# Altium schematic symbol library 6903 6818 xx 72.SchLib: 12 symbols
Pins are listed as number, name and electrical type; pins without a type are passive.

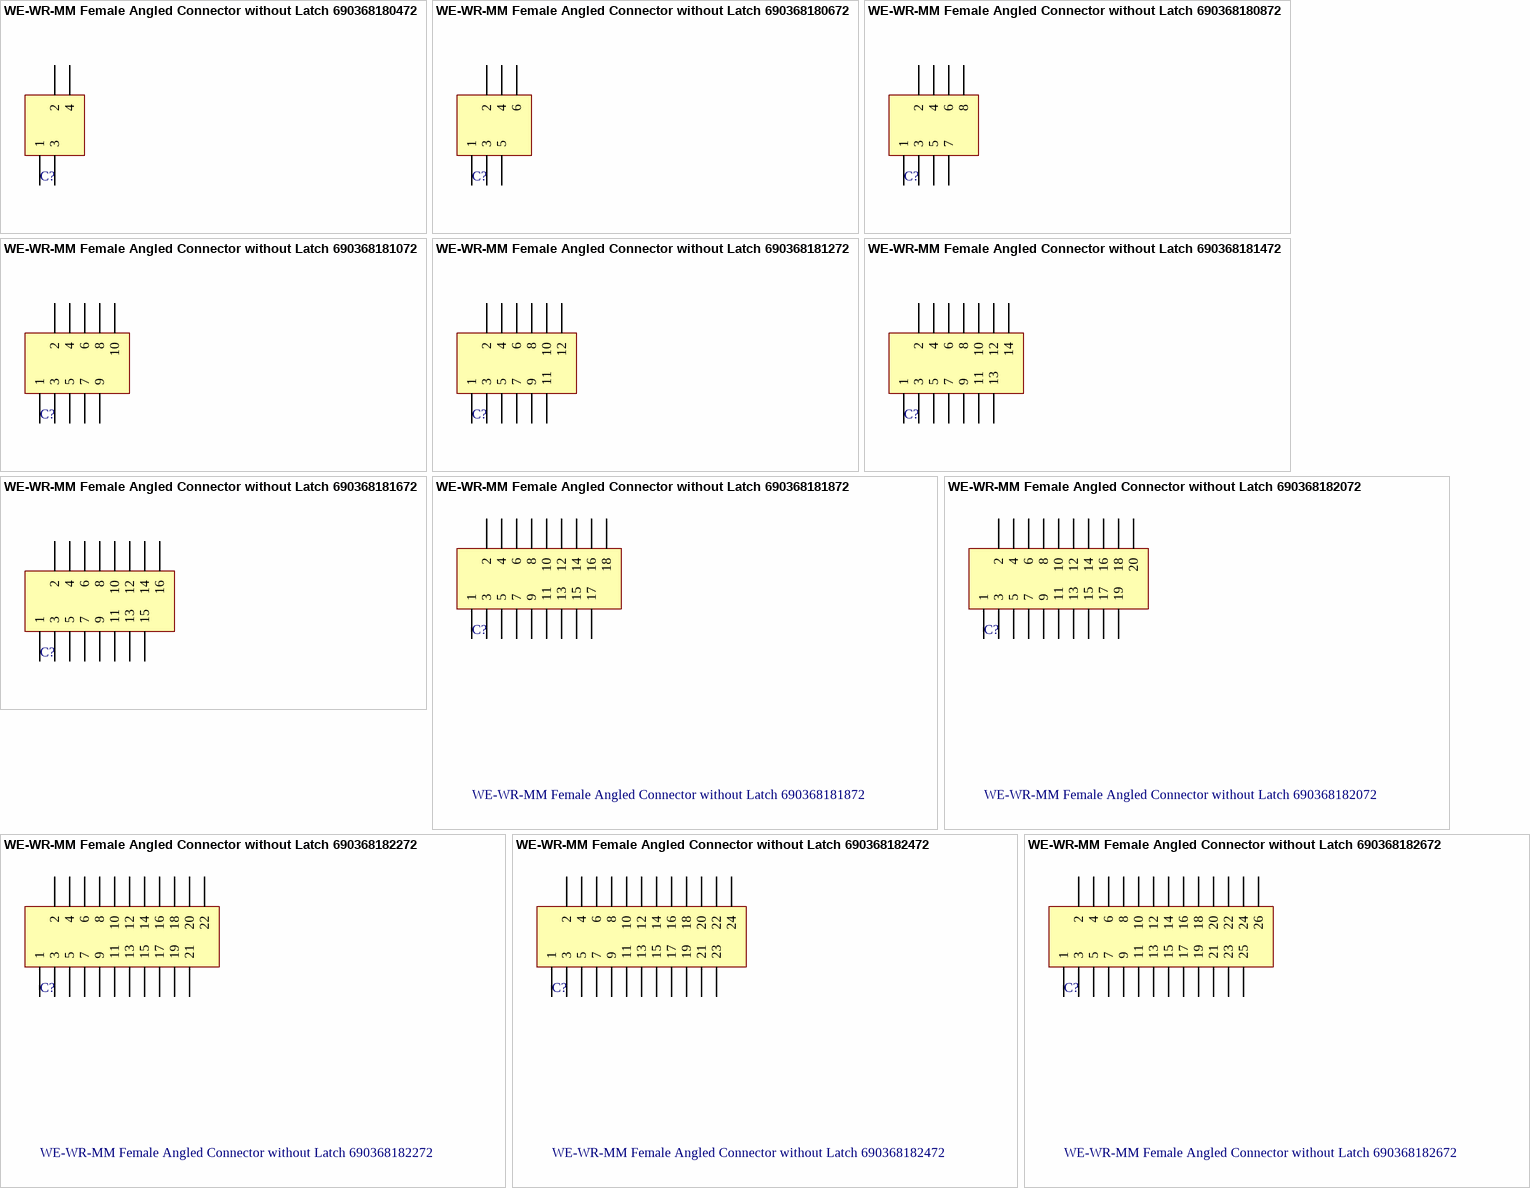
[diagram p0: symbols WE-WR-MM Female Angled Connector without Latch 690368180472 to WE-WR-MM Female Angled Connector without Latch 690368182672]

## WE-WR-MM Female Angled Connector without Latch 690368180472
designator C?
WR-MM Female Angled Connector without Latch; Manufacturer: Würth Elektronik eiSos GmbH; ComponentLink1 Description: Manufacturer; ComponentLink2 Description: Datasheet; NoPins: 4; Created Date: 18 April 2013; partNo: 690368180472; ComponentLink1URL: http://www.we-online.com; ComponentLink2URL: http://katalog.we-online.de/em/datasheet/69036818xx72.pdf; Created by: Karrer Zheng
footprint 690368180472 (without Polarization, 4 pins, right angled)
pins: 1, 2, 3, 4

## WE-WR-MM Female Angled Connector without Latch 690368180672
designator C?
WR-MM Female Angled Connector without Latch; Manufacturer: Würth Elektronik eiSos GmbH; ComponentLink1 Description: Manufacturer; ComponentLink2 Description: Datasheet; NoPins: 6; Created Date: 18 April 2013; partNo: 690368180672; ComponentLink1URL: http://www.we-online.com; ComponentLink2URL: http://katalog.we-online.de/em/datasheet/69036818xx72.pdf; Created by: Karrer Zheng
footprint 690368180672 (without Polarization, 6 pins, right angled)
pins: 1, 2, 3, 4, 5, 6

## WE-WR-MM Female Angled Connector without Latch 690368180872
designator C?
WR-MM Female Angled Connector without Latch; Manufacturer: Würth Elektronik eiSos GmbH; ComponentLink1 Description: Manufacturer; ComponentLink2 Description: Datasheet; NoPins: 8; Created Date: 18 April 2013; partNo: 690368180872; ComponentLink1URL: http://www.we-online.com; ComponentLink2URL: http://katalog.we-online.de/em/datasheet/69036818xx72.pdf; Created by: Karrer Zheng
footprint 690368180872 (without Polarization, 8 pins, right angled)
pins: 1, 2, 3, 4, 5, 6, 7, 8

## WE-WR-MM Female Angled Connector without Latch 690368181072
designator C?
WR-MM Female Angled Connector without Latch; Manufacturer: Würth Elektronik eiSos GmbH; ComponentLink1 Description: Manufacturer; ComponentLink2 Description: Datasheet; NoPins: 10; Created Date: 18 April 2013; partNo: 690368181072; ComponentLink1URL: http://www.we-online.com; ComponentLink2URL: http://katalog.we-online.de/em/datasheet/69036818xx72.pdf; Created by: Karrer Zheng
footprint 690368181072 (without Polarization, 10 pins, right angled)
pins: 1, 2, 3, 4, 5, 6, 7, 8, 9, 10

## WE-WR-MM Female Angled Connector without Latch 690368181272
designator C?
WR-MM Female Angled Connector without Latch; Manufacturer: Würth Elektronik eiSos GmbH; ComponentLink1 Description: Manufacturer; ComponentLink2 Description: Datasheet; NoPins: 12; Created Date: 18 April 2013; partNo: 690368181272; ComponentLink1URL: http://www.we-online.com; ComponentLink2URL: http://katalog.we-online.de/em/datasheet/69036818xx72.pdf; Created by: Karrer Zheng
footprint 690368181272 (without Polarization, 12 pins, right angled)
pins: 1, 2, 3, 4, 5, 6, 7, 8, 9, 10, 11, 12

## WE-WR-MM Female Angled Connector without Latch 690368181472
designator C?
WR-MM Female Angled Connector without Latch; Manufacturer: Würth Elektronik eiSos GmbH; ComponentLink1 Description: Manufacturer; ComponentLink2 Description: Datasheet; NoPins: 14; Created Date: 18 April 2013; partNo: 690368181472; ComponentLink1URL: http://www.we-online.com; ComponentLink2URL: http://katalog.we-online.de/em/datasheet/69036818xx72.pdf; Created by: Karrer Zheng
footprint 690368181472 (without Polarization,14 pins, right angled)
pins: 1, 2, 3, 4, 5, 6, 7, 8, 9, 10, 11, 12, 13, 14

## WE-WR-MM Female Angled Connector without Latch 690368181672
designator C?
WR-MM Female Angled Connector without Latch; Manufacturer: Würth Elektronik eiSos GmbH; ComponentLink1 Description: Manufacturer; ComponentLink2 Description: Datasheet; NoPins: 16; Created Date: 18 April 2013; partNo: 690368181672; ComponentLink1URL: http://www.we-online.com; ComponentLink2URL: http://katalog.we-online.de/em/datasheet/69036818xx72.pdf; Created by: Karrer Zheng
footprint 690368181672 (without Polarization, 16 pins, right angled)
pins: 1, 2, 3, 4, 5, 6, 7, 8, 9, 10, 11, 12, 13, 14, 15, 16

## WE-WR-MM Female Angled Connector without Latch 690368181872
designator C?
WR-MM Female Angled Connector without Latch; Manufacturer: Würth Elektronik eiSos GmbH; ComponentLink1 Description: Manufacturer; ComponentLink2 Description: Datasheet; NoPins: 18; Created Date: 18 April 2013; partNo: 690368181872; ComponentLink1URL: http://www.we-online.com; ComponentLink2URL: http://katalog.we-online.de/em/datasheet/69036818xx72.pdf; Created by: Karrer Zheng
footprint 690368181872 (without Polarization, 18 pins, right angled)
pins: 1, 2, 3, 4, 5, 6, 7, 8, 9, 10, 11, 12, 13, 14, 15, 16, 17, 18

## WE-WR-MM Female Angled Connector without Latch 690368182072
designator C?
WR-MM Female Angled Connector without Latch; Manufacturer: Würth Elektronik eiSos GmbH; ComponentLink1 Description: Manufacturer; ComponentLink2 Description: Datasheet; NoPins: 20; Created Date: 18 April 2013; partNo: 690368182072; ComponentLink1URL: http://www.we-online.com; ComponentLink2URL: http://katalog.we-online.de/em/datasheet/69036818xx72.pdf; Created by: Karrer Zheng
footprint 690368182072 (without Polarization, 20 pins, right angled)
pins: 1, 2, 3, 4, 5, 6, 7, 8, 9, 10, 11, 12, 13, 14, 15, 16, 17, 18, 19, 20

## WE-WR-MM Female Angled Connector without Latch 690368182272
designator C?
WR-MM Female Angled Connector without Latch; Manufacturer: Würth Elektronik eiSos GmbH; ComponentLink1 Description: Manufacturer; ComponentLink2 Description: Datasheet; NoPins: 22; Created Date: 18 April 2013; partNo: 690368182272; ComponentLink1URL: http://www.we-online.com; ComponentLink2URL: http://katalog.we-online.de/em/datasheet/69036818xx72.pdf; Created by: Karrer Zheng
footprint 690368182272 (without Polarization, 22 pins, right angled)
pins: 1, 2, 3, 4, 5, 6, 7, 8, 9, 10, 11, 12, 13, 14, 15, 16, 17, 18, 19, 20, 21, 22

## WE-WR-MM Female Angled Connector without Latch 690368182472
designator C?
WR-MM Female Angled Connector without Latch; Manufacturer: Würth Elektronik eiSos GmbH; ComponentLink1 Description: Manufacturer; ComponentLink2 Description: Datasheet; NoPins: 24; Created Date: 18 April 2013; partNo: 690368182472; ComponentLink1URL: http://www.we-online.com; ComponentLink2URL: http://katalog.we-online.de/em/datasheet/69036818xx72.pdf; Created by: Karrer Zheng
footprint 690368182472 (without Polarization, 24 pins, right angled)
pins: 1, 2, 3, 4, 5, 6, 7, 8, 9, 10, 11, 12, 13, 14, 15, 16, 17, 18, 19, 20, 21, 22, 23, 24

## WE-WR-MM Female Angled Connector without Latch 690368182672
designator C?
WR-MM Female Angled Connector without Latch; Manufacturer: Würth Elektronik eiSos GmbH; ComponentLink1 Description: Manufacturer; ComponentLink2 Description: Datasheet; NoPins: 26; Created Date: 18 April 2013; partNo: 690368182672; ComponentLink1URL: http://www.we-online.com; ComponentLink2URL: http://katalog.we-online.de/em/datasheet/69036818xx72.pdf; Created by: Karrer Zheng
footprint 690368182672 (without Polarization, 26 pins, right angled)
pins: 1, 2, 3, 4, 5, 6, 7, 8, 9, 10, 11, 12, 13, 14, 15, 16, 17, 18, 19, 20, 21, 22, 23, 24, 25, 26